# EAGLE library part AD9467 (library NewSDR)
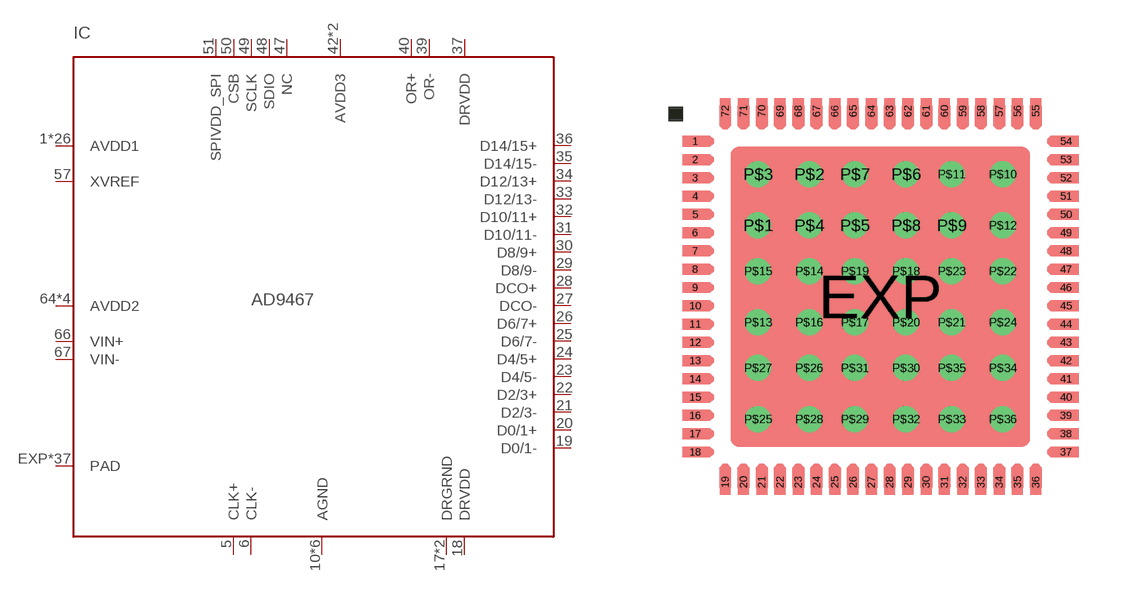
[diagram p223: symbol with the pads of LFCSP72A; footprint LFCSP72A]

Designator prefix IC

## AD9467-200BCPZ (SPEED: 200 MSPS), AD9467-250BCPZ (SPEED: 250 MSPS)  [LFCSP72A]
1  AVDD1  pwr
2  AVDD1  pwr
3  AVDD1  pwr
4  AVDD1  pwr
5  CLK+  in
6  CLK-  in
7  AVDD1  pwr
8  AVDD1  pwr
9  AVDD1  pwr
10  AGND  pwr
11  AVDD1  pwr
12  AVDD1  pwr
13  AVDD1  pwr
14  AGND  pwr
15  AVDD1  pwr
16  AGND  pwr
17  DRGRND  pwr
18  DRVDD  pwr
19  D0/1-  out
20  D0/1+  out
21  D2/3-  out
22  D2/3+  out
23  D4/5-  out
24  D4/5+  out
25  D6/7-  out
26  D6/7+  out
27  DCO-  out
28  DCO+  out
29  D8/9-  out
30  D8/9+  out
31  D10/11-  out
32  D10/11+  out
33  D12/13-  out
34  D12/13+  out
35  D14/15-  out
36  D14/15+  out
37  DRVDD  pwr
38  DRGRND  pwr
39  OR-  out
40  OR+  out
41  AGND  pwr
42  AVDD3  pwr
43  AGND  pwr
44  AVDD3  pwr
45  AGND  pwr
46  AVDD1  pwr
47  NC  nc
48  SDIO
49  SCLK  in
50  CSB  in
51  SPIVDD_SPI  pwr
52  AVDD1  pwr
53  AVDD1  pwr
54  AVDD1  pwr
55  AVDD1  pwr
56  AVDD1  pwr
57  XVREF  pwr
58  AVDD1  pwr
59  AVDD1  pwr
60  AVDD1  pwr
61  AVDD1  pwr
62  AVDD1  pwr
63  AVDD1  pwr
64  AVDD2  pwr
65  AVDD2  pwr
66  VIN+  in
67  VIN-  in
68  AVDD2  pwr
69  AVDD2  pwr
70  AVDD1  pwr
71  AVDD1  pwr
72  AVDD1  pwr
EXP  PAD  pwr
P$1  PAD  pwr
P$2  PAD  pwr
P$3  PAD  pwr
P$4  PAD  pwr
P$5  PAD  pwr
P$6  PAD  pwr
P$7  PAD  pwr
P$8  PAD  pwr
P$9  PAD  pwr
P$10  PAD  pwr
P$11  PAD  pwr
P$12  PAD  pwr
P$13  PAD  pwr
P$14  PAD  pwr
P$15  PAD  pwr
P$16  PAD  pwr
P$17  PAD  pwr
P$18  PAD  pwr
P$19  PAD  pwr
P$20  PAD  pwr
P$21  PAD  pwr
P$22  PAD  pwr
P$23  PAD  pwr
P$24  PAD  pwr
P$25  PAD  pwr
P$26  PAD  pwr
P$27  PAD  pwr
P$28  PAD  pwr
P$29  PAD  pwr
P$30  PAD  pwr
P$31  PAD  pwr
P$32  PAD  pwr
P$33  PAD  pwr
P$34  PAD  pwr
P$35  PAD  pwr
P$36  PAD  pwr

## AD9467-200 (SPEED: 200 MSPS), AD9467-250 (SPEED: 250 MSPS)  [LFCSP72A]
Pads as for LFCSP72A

## Footprint LFCSP72A (pad centres in mm)
smd 0.7 x 0.3: 1 -5.075,4.25; 2 -5.075,3.75; 3 -5.075,3.25; 4 -5.075,2.75; 5 -5.075,2.25; 6 -5.075,1.75; 7 -5.075,1.25; 8 -5.075,0.75; 9 -5.075,0.25; 10 -5.075,-0.25; 11 -5.075,-0.75; 12 -5.075,-1.25; 13 -5.075,-1.75; 14 -5.075,-2.25; 15 -5.075,-2.75; 16 -5.075,-3.25; 17 -5.075,-3.75; 18 -5.075,-4.25; 37 5.075,-4.25; 38 5.075,-3.75; 39 5.075,-3.25; 40 5.075,-2.75; 41 5.075,-2.25; 42 5.075,-1.75; 43 5.075,-1.25; 44 5.075,-0.75; 45 5.075,-0.25; 46 5.075,0.25; 47 5.075,0.75; 48 5.075,1.25; 49 5.075,1.75; 50 5.075,2.25; 51 5.075,2.75; 52 5.075,3.25; 53 5.075,3.75; 54 5.075,4.25
smd 0.3 x 0.7: 19 -4.25,-5.075; 20 -3.75,-5.075; 21 -3.25,-5.075; 22 -2.75,-5.075; 23 -2.25,-5.075; 24 -1.75,-5.075; 25 -1.25,-5.075; 26 -0.75,-5.075; 27 -0.25,-5.075; 28 0.25,-5.075; 29 0.75,-5.075; 30 1.25,-5.075; 31 1.75,-5.075; 32 2.25,-5.075; 33 2.75,-5.075; 34 3.25,-5.075; 35 3.75,-5.075; 36 4.25,-5.075; 55 4.25,5.075; 56 3.75,5.075; 57 3.25,5.075; 58 2.75,5.075; 59 2.25,5.075; 60 1.75,5.075; 61 1.25,5.075; 62 0.75,5.075; 63 0.25,5.075; 64 -0.25,5.075; 65 -0.75,5.075; 66 -1.25,5.075; 67 -1.75,5.075; 68 -2.25,5.075; 69 -2.75,5.075; 70 -3.25,5.075; 71 -3.75,5.075; 72 -4.25,5.075
smd 8.2 x 8.2: EXP 0,0
drill 0.203 pad 0.406: P$1 -3.35,1.95; P$2 -1.95,3.35; P$3 -3.35,3.35; P$4 -1.95,1.95; P$5 -0.7,1.95; P$6 0.7,3.35; P$7 -0.7,3.35; P$8 0.7,1.95; P$9 1.95,1.95; P$10 3.35,3.35; P$11 1.95,3.35; P$12 3.35,1.95; P$13 -3.35,-0.7; P$14 -1.95,0.7; P$15 -3.35,0.7; P$16 -1.95,-0.7; P$17 -0.7,-0.7; P$18 0.7,0.7; P$19 -0.7,0.7; P$20 0.7,-0.7; P$21 1.95,-0.7; P$22 3.35,0.7; P$23 1.95,0.7; P$24 3.35,-0.7; P$25 -3.35,-3.35; P$26 -1.95,-1.95; P$27 -3.35,-1.95; P$28 -1.95,-3.35; P$29 -0.7,-3.35; P$30 0.7,-1.95; P$31 -0.7,-1.95; P$32 0.7,-3.35; P$33 1.95,-3.35; P$34 3.35,-1.95; P$35 1.95,-1.95; P$36 3.35,-3.35